# Altium footprint library FUSC4632X85N.PcbLib: 1 footprints
Each footprint in its own frame and in the unit in brackets; x right, y up, seen from the top. Pads: shape width x height; smd on the part's side, far side on the other; paste and mask are expansions set on the pad; w line width, h text height; cw(c..) or ccw(c..) is an arc to the next point about the centre after c.
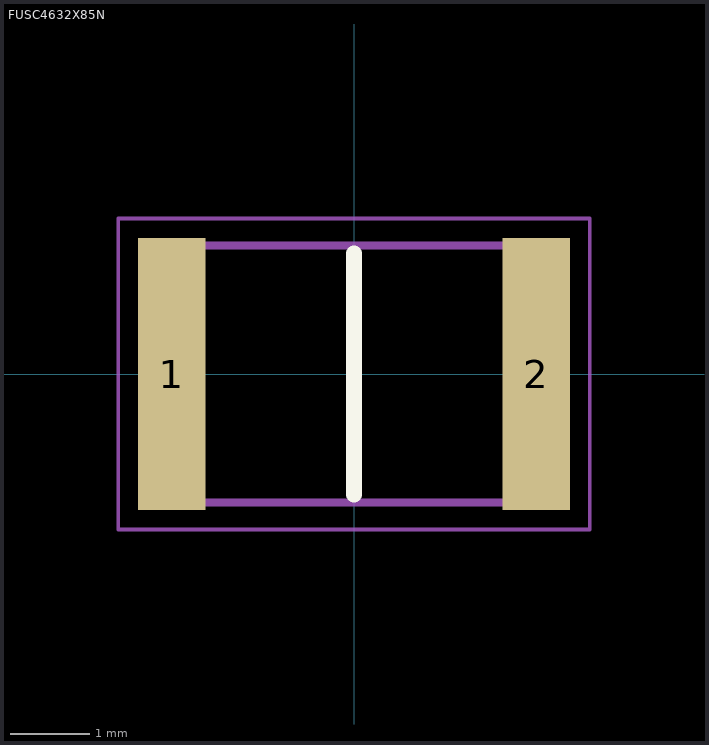
[diagram p0: the footprint, top view; thin cyan lines are the x and y axes]

## FUSC4632X85N [mm]
pads (2):
  rect 0.85x3.43 smd: 1(-2.3,0) 2(2.3,0)
Top Overlay:
  lines w0.2: 0,-1.52 0,1.52
Mechanical 15:
  lines w0.1: -2.275,-1.62 2.275,-1.62 2.275,1.62 -2.275,1.62 -2.275,-1.62
Mechanical 20:
  lines w0.05: -2.975,-1.965 2.975,-1.965 2.975,1.965 -2.975,1.965 -2.975,-1.965
3D body "MF-MSMF050-2.stp": height 5.8, standoff -4.65, extent -10,-3.376 10,3.376